# EAGLE library part CORE.L.1 (library Bergsonne Tiles)
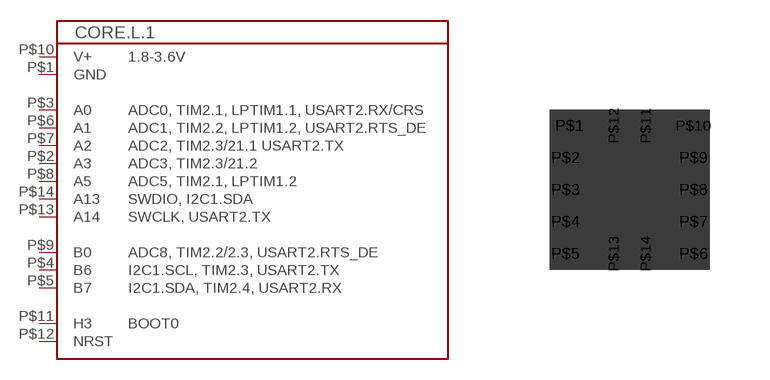
[diagram p6: symbol with the pads of T44-14; footprint T44-14]

Designator prefix -

## CORE.L.1  [T44-14]
P$1  GND
P$2  A3
P$3  A0
P$4  B6
P$5  B7
P$6  A1
P$7  A2
P$8  A5
P$9  B0
P$10  V+
P$11  H3
P$12  NRST
P$13  A14
P$14  A13

## Footprint T44-14 (pad centres in mm)
smd 1 x 0.4: P$1 -1.5,1.6
smd 0.8 x 0.4: P$2 -1.6,0.8; P$3 -1.6,0; P$4 -1.6,-0.8; P$5 -1.6,-1.6; P$6 1.6,-1.6; P$7 1.6,-0.8; P$8 1.6,0; P$9 1.6,0.8; P$10 1.6,1.6
smd 0.4 x 0.8: P$11 0.4,1.6; P$12 -0.4,1.6; P$13 -0.4,-1.6; P$14 0.4,-1.6